# Altium schematic symbol library PIPE.SchLib: 1 symbol
Pins are listed as number, name and electrical type; pins without a type are passive.

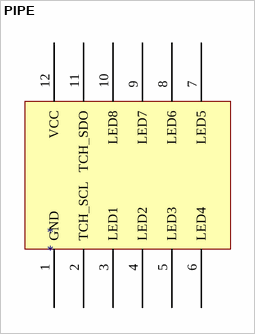
[diagram p0: symbol PIPE]

## PIPE
designator *
footprint PIPE
footprint PIPE_SMALL
footprint PIPE
pins: 1 GND, 2 TCH_SCL, 3 LED1, 4 LED2, 5 LED3, 6 LED4, 7 LED5, 8 LED6, 9 LED7, 10 LED8, 11 TCH_SDO, 12 VCC